# EAGLE library part MOC3081 (library MOC3081M)
MOC3081https://www.mouser.com/datasheet/2/149/MOC3081M-356014.pdf
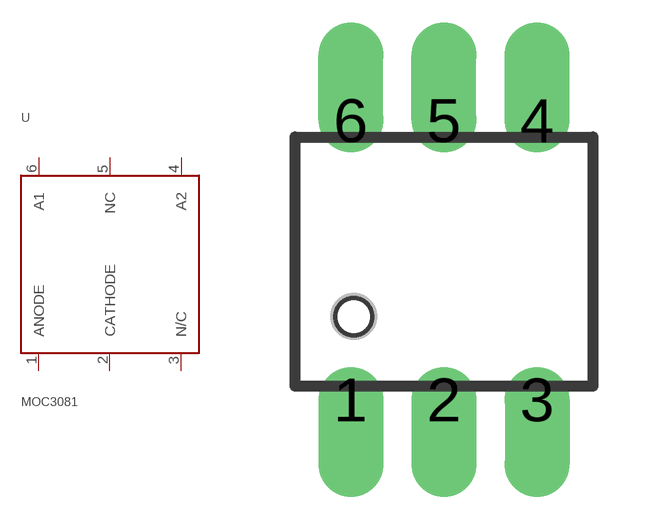
[diagram p0: symbol with the pads of DIP-6; footprint DIP-6]

Designator prefix -

## MOC3081A  [DIP-6]
1  ANODE
2  CATHODE
3  N/C
4  A2
5  NC
6  A1

## Footprint DIP-6 (pad centres in mm)
drill 1 pad 1.778 offset: 1 -2.54,-3.56; 2 0,-3.56; 3 2.54,-3.56; 4 2.54,4.06; 5 0,4.06; 6 -2.54,4.06